# Altium footprint library PCB - PASSIVES - NTC 0603_1608.PCBLIB: 1 footprints
Each footprint in its own frame and in the unit in brackets; x right, y up, seen from the top. Pads: shape width x height; smd on the part's side, far side on the other; paste and mask are expansions set on the pad; w line width, h text height; cw(c..) or ccw(c..) is an arc to the next point about the centre after c.
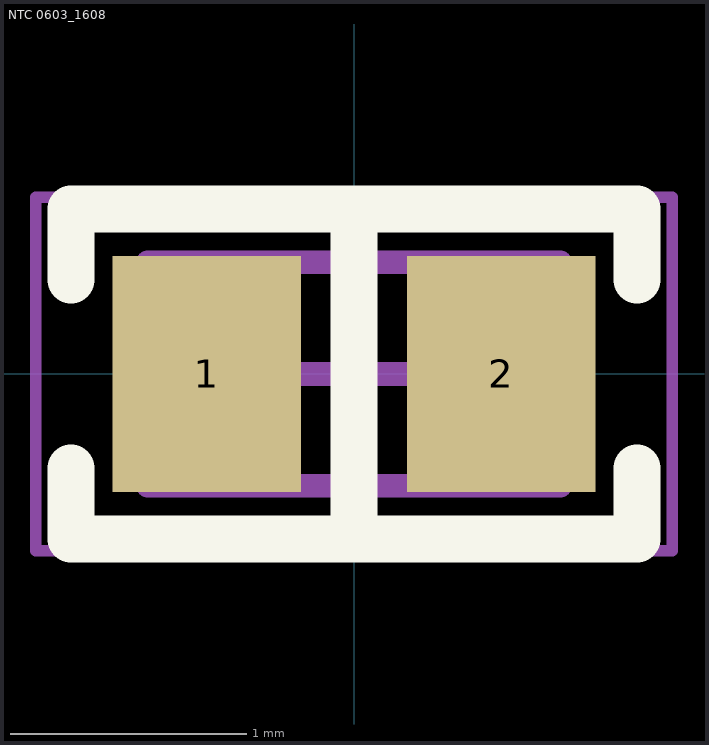
[diagram p0: the footprint, top view; thin cyan lines are the x and y axes]

## NTC 0603_1608 [mm] "NTC Thermistor, 2-Leads, Body 1.60x0.80mm, IPC Medium Density"
height 0.95
pads (2):
  rect 0.8x1 smd: 1(-0.625,0) 2(0.625,0)
Top Overlay:
  lines w0.2: -1.2,-0.4 -1.2,-0.7 1.2,-0.7 1.2,-0.4 ; -1.2,0.4 -1.2,0.7 1.2,0.7 1.2,0.4 ; 0,-0.7 0,0.7
Mechanical 13:
  lines w0.1: -0.875,-0.475 0.875,-0.475 0.875,0.475 -0.875,0.475 -0.875,-0.475
Mechanical 15:
  lines w0.05: -1.35,-0.75 1.35,-0.75 1.35,0.75 -1.35,0.75 -1.35,-0.75
  lines w0.1: -0.475,0 0.475,0 ; 0,-0.475 0,0.475
3D body "NTC 0603.STEP": height 0.82, standoff 0, extent -0.8,-0.412 0.8,0.412